# EAGLE library part LIS344ALH (library custom)
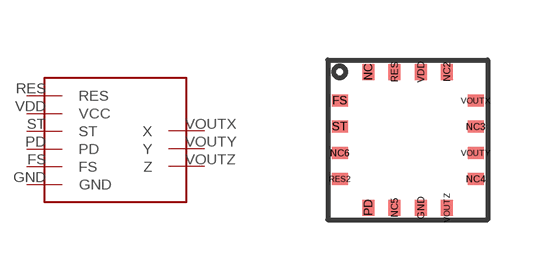
[diagram p0: symbol with the pads of LIS344ALH; footprint LIS344ALH]

Designator prefix -

## LIS344ALH  [LIS344ALH]
FS  FS  in
GND  GND  pwr
PD  PD  in
RES  RES
ST  ST  in
VDD  VCC  pwr
VOUTX  X  out
VOUTY  Y  out
VOUTZ  Z  out

## Footprint LIS344ALH (pad centres in mm)
smd 0.4 x 0.3: FS -1.7,0.98; NC3 1.7,0.33; NC4 1.7,-0.98; NC6 -1.7,-0.33; RES2 -1.7,-0.98; ST -1.7,0.33; VOUTX 1.7,0.98; VOUTY 1.7,-0.33
smd 0.3 x 0.4: GND 0.33,-1.7; NC -0.98,1.7; NC2 0.98,1.7; NC5 -0.33,-1.7; PD -0.98,-1.7; RES -0.33,1.7; VDD 0.33,1.7; VOUTZ 0.98,-1.7